# Altium schematic symbol library GOST_Resistors.SchLib: 8 symbols
Pins are listed as number, name and electrical type; pins without a type are passive.

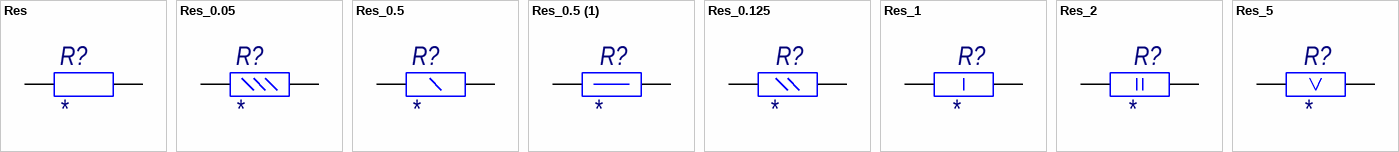
[diagram p0: symbols Res to Res_5]

## Res
designator R?
Case: *; HelpURL: *; Manufacture: *; Power: *; Model: *; Impedance: *
pins: 1 (power), 2 (power)

## Res_0.05
designator R?
Case: *; Manufacture: *; HelpURL: *; Model: *; Power: *; Impedance: *
pins: 1 (power), 2 (power)

## Res_0.5
designator R?
HelpURl: *; Manufacture: *; Case: *; Model: *; Power: *; Impedance: *
pins: 1 (power), 2 (power)

## Res_0.5 (1)
designator R?
Manufacture: *; Case: *; HelpURL: *; Model: *; Power: *; Impedance: *
pins: 1 (power), 2 (power)

## Res_0.125
designator R?
Case: *; Manufacture: *; HelpURL: *; Model: *; Power: *; Impedance: *
pins: 1 (power), 2 (power)

## Res_1
designator R?
Case: *; Manufacture: *; HelpURL: *; Model: *; Power: *; Impedance: *
pins: 1 * (power), 2 * (power)

## Res_2
designator R?
Case: *; Manufacture: *; HelpURL: *; Model: *; Power: *; Impedance: *
pins: 1 (power), 2 (power)

## Res_5
designator R?
Case: *; Manufacture: *; HelpURL: *; Model: *; Power: *; Impedance: *
pins: 1 (power), 2 (power)